# Altium schematic symbol library Components - 23.08.25 - 02.57.SchLib: 1 symbol
Pins are listed as number, name and electrical type; pins without a type are passive.

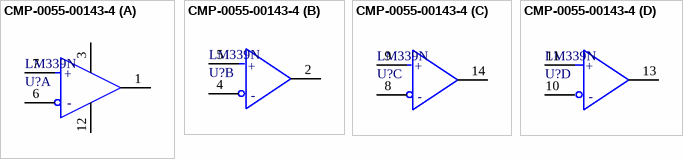
[diagram p0: symbol CMP-0055-00143-4]

## CMP-0055-00143-4
designator U?, comment LM339N
IC QUAD DIFF COMPARATOR 14-DIP; Power Dissipation: 1.05kW; Response Time: 1.3us; Max Input Current: 250nA; Max Supply Current: 500uA; Output Current: 20mA; Output Type: TTL; Max Dual Supply Voltage: 15V; Voltage Gain: 106.02dB; Min Supply Voltage: 2V; Max Power Dissipation: 1.05W; Quiescent Current: 2.5mA; Nominal Supply Current: 2mA; Input Offset Voltage (Vos): 5mV; Number of Channels: 4; Output Current per Channel: 6mA; Max Supply Voltage: 30V; Min Dual Supply Voltage: 1V; Dual Supply Voltage: 9V; REACH SVHC: No SVHC; Max Operating Temperature: 70°C; Case/Package: PDIP; Weight: 0.032734oz; Radiation Hardening: No; Min Operating Temperature: 0°C; Number of Pins: 14; Contact Plating: Gold; Package Quantity: 25; Lead Free: Lead Free; Height: 4.57mm; Packaging: Rail/Tube; Input Bias Current: 250nA; Number of Elements: 4; Mount: Through Hole; Width: 6.35mm; Length: 19.3mm
footprint FP-N0014A-MFG
part A pins: 1 1OUT, 3 VCC (power), 6 1IN- (hiz), 7 1IN+ (hiz), 12 GND (power)
part B pins: 2 2OUT, 4 2IN- (hiz), 5 2IN+ (hiz)
part C pins: 8 3IN- (hiz), 9 3IN+ (hiz), 14 OUT3
part D pins: 10 4IN- (hiz), 11 4IN+ (hiz), 13 OUT4
part A text: +; -
part B text: +; -
part C text: +; -
part D text: +; -